# EAGLE library part ORBIT-JST-ZH-8PIN (library ORBiT-con-JST-ZH)
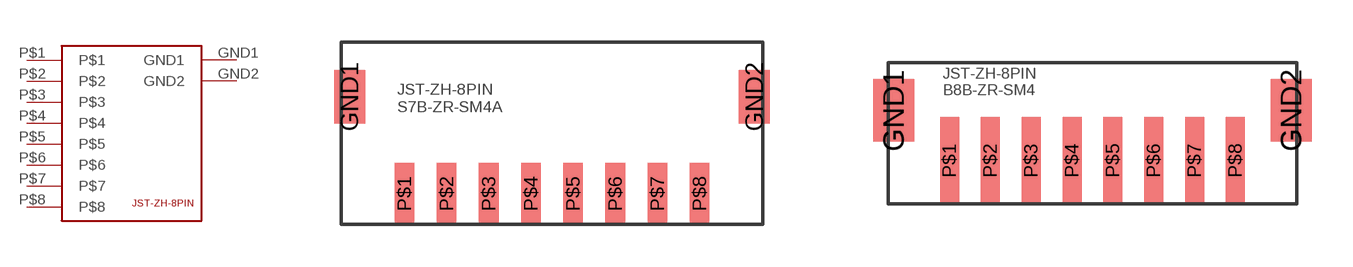
[diagram p4: symbol with the pads of S8B-ZR-SM4A; footprints S8B-ZR-SM4A, B8B-ZR-SM4]

Designator prefix -

## ORBIT-JST-ZH-8PINS8B-ZR-SM4A  [S8B-ZR-SM4A]
GND1  GND1
GND2  GND2
P$1  P$1
P$2  P$2
P$3  P$3
P$4  P$4
P$5  P$5
P$6  P$6
P$7  P$7
P$8  P$8

## ORBIT-JST-ZH-8PINB8B-ZR-SM4  [B8B-ZR-SM4]
Pads as for S8B-ZR-SM4A

## Footprint S8B-ZR-SM4A (pad centres in mm)
smd 1.1 x 1.9: GND1 0.3,4.55; GND2 14.7,4.55
smd 0.7 x 2.2: P$1 2.25,1.1; P$2 3.75,1.1; P$3 5.25,1.1; P$4 6.75,1.1; P$5 8.25,1.1; P$6 9.75,1.1; P$7 11.25,1.1; P$8 12.75,1.1

## Footprint B8B-ZR-SM4 (pad centres in mm)
smd 1.5 x 2.3: GND1 0.2,3.45; GND2 14.8,3.45
smd 0.7 x 3.2: P$1 2.25,1.6; P$2 3.75,1.6; P$3 5.25,1.6; P$4 6.75,1.6; P$5 8.25,1.6; P$6 9.75,1.6; P$7 11.25,1.6; P$8 12.75,1.6